# Altium footprint library IPC-7355 QFP_Shrink_Sq_50P_Side_N.PcbLib: 26 footprints (part 3 of 3)
Each footprint in its own frame and in the unit in brackets; x right, y up, seen from the top. Pads: shape width x height; smd on the part's side, far side on the other; paste and mask are expansions set on the pad; w line width, h text height; cw(c..) or ccw(c..) is an arc to the next point about the centre after c.
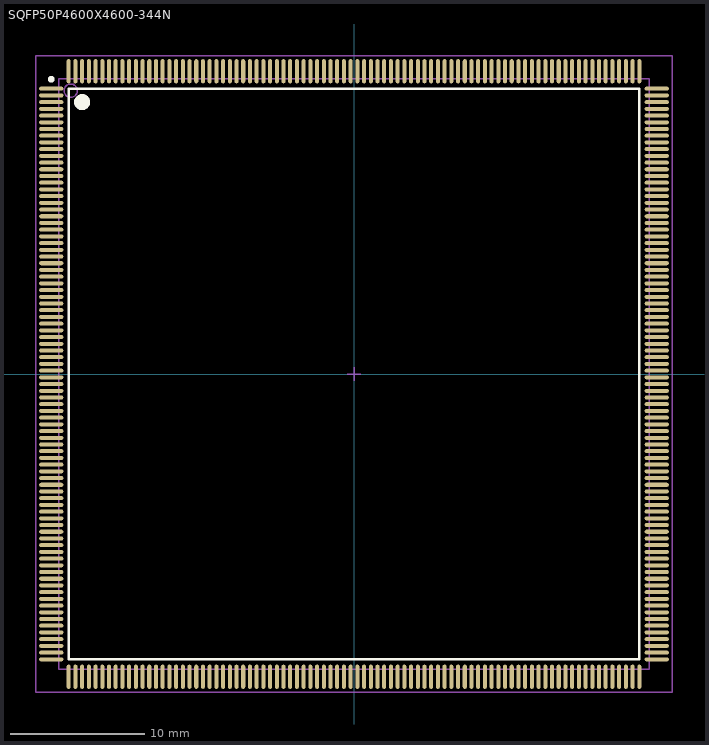
[diagram p2: the footprint, top view; thin cyan lines are the x and y axes]

## SQFP50P4600X4600-344N [mm] "Shrink QFP, 344-Leads, Body 44x44mm, Pitch 0.5mm, IPC Medium Density"
height 4.2
pads (344):
  oval 1.8x0.3 smd: 1(-22.55,21.25) 2(-22.55,20.75) 3(-22.55,20.25) 4(-22.55,19.75) 5(-22.55,19.25) 6(-22.55,18.75) 7(-22.55,18.25) 8(-22.55,17.75) 9(-22.55,17.25) 10(-22.55,16.75) 11(-22.55,16.25) 12(-22.55,15.75) 13(-22.55,15.25) 14(-22.55,14.75) 15(-22.55,14.25) 16(-22.55,13.75) 17(-22.55,13.25) 18(-22.55,12.75) 19(-22.55,12.25) 20(-22.55,11.75) 21(-22.55,11.25) 22(-22.55,10.75) 23(-22.55,10.25) 24(-22.55,9.75) 25(-22.55,9.25) 26(-22.55,8.75) 27(-22.55,8.25) 28(-22.55,7.75) 29(-22.55,7.25) 30(-22.55,6.75) 31(-22.55,6.25) 32(-22.55,5.75) 33(-22.55,5.25) 34(-22.55,4.75) 35(-22.55,4.25) 36(-22.55,3.75) 37(-22.55,3.25) 38(-22.55,2.75) 39(-22.55,2.25) 40(-22.55,1.75) 41(-22.55,1.25) 42(-22.55,0.75) 43(-22.55,0.25) 44(-22.55,-0.25) 45(-22.55,-0.75) 46(-22.55,-1.25) 47(-22.55,-1.75) 48(-22.55,-2.25) 49(-22.55,-2.75) 50(-22.55,-3.25) 51(-22.55,-3.75) 52(-22.55,-4.25) 53(-22.55,-4.75) 54(-22.55,-5.25) 55(-22.55,-5.75) 56(-22.55,-6.25) 57(-22.55,-6.75) 58(-22.55,-7.25) 59(-22.55,-7.75) 60(-22.55,-8.25) 61(-22.55,-8.75) 62(-22.55,-9.25) 63(-22.55,-9.75) 64(-22.55,-10.25) 65(-22.55,-10.75) 66(-22.55,-11.25) 67(-22.55,-11.75) 68(-22.55,-12.25) 69(-22.55,-12.75) 70(-22.55,-13.25) 71(-22.55,-13.75) 72(-22.55,-14.25) 73(-22.55,-14.75) 74(-22.55,-15.25) 75(-22.55,-15.75) 76(-22.55,-16.25) 77(-22.55,-16.75) 78(-22.55,-17.25) 79(-22.55,-17.75) 80(-22.55,-18.25) 81(-22.55,-18.75) 82(-22.55,-19.25) 83(-22.55,-19.75) 84(-22.55,-20.25) 85(-22.55,-20.75) 86(-22.55,-21.25) 173(22.55,-21.25) 174(22.55,-20.75) 175(22.55,-20.25) 176(22.55,-19.75) 177(22.55,-19.25) 178(22.55,-18.75) 179(22.55,-18.25) 180(22.55,-17.75) 181(22.55,-17.25) 182(22.55,-16.75) 183(22.55,-16.25) 184(22.55,-15.75) 185(22.55,-15.25) 186(22.55,-14.75) 187(22.55,-14.25) 188(22.55,-13.75) 189(22.55,-13.25) 190(22.55,-12.75) 191(22.55,-12.25) 192(22.55,-11.75) 193(22.55,-11.25) 194(22.55,-10.75) 195(22.55,-10.25) 196(22.55,-9.75) 197(22.55,-9.25) 198(22.55,-8.75) 199(22.55,-8.25) 200(22.55,-7.75) 201(22.55,-7.25) 202(22.55,-6.75) 203(22.55,-6.25) 204(22.55,-5.75) 205(22.55,-5.25) 206(22.55,-4.75) 207(22.55,-4.25) 208(22.55,-3.75) 209(22.55,-3.25) 210(22.55,-2.75) 211(22.55,-2.25) 212(22.55,-1.75) 213(22.55,-1.25) 214(22.55,-0.75) 215(22.55,-0.25) 216(22.55,0.25) 217(22.55,0.75) 218(22.55,1.25) 219(22.55,1.75) 220(22.55,2.25) 221(22.55,2.75) 222(22.55,3.25) 223(22.55,3.75) 224(22.55,4.25) 225(22.55,4.75) 226(22.55,5.25) 227(22.55,5.75) 228(22.55,6.25) 229(22.55,6.75) 230(22.55,7.25) 231(22.55,7.75) 232(22.55,8.25) 233(22.55,8.75) 234(22.55,9.25) 235(22.55,9.75) 236(22.55,10.25) 237(22.55,10.75) 238(22.55,11.25) 239(22.55,11.75) 240(22.55,12.25) 241(22.55,12.75) 242(22.55,13.25) 243(22.55,13.75) 244(22.55,14.25) 245(22.55,14.75) 246(22.55,15.25) 247(22.55,15.75) 248(22.55,16.25) 249(22.55,16.75) 250(22.55,17.25) 251(22.55,17.75) 252(22.55,18.25) 253(22.55,18.75) 254(22.55,19.25) 255(22.55,19.75) 256(22.55,20.25) 257(22.55,20.75) 258(22.55,21.25)
  oval 0.3x1.8 smd: 87(-21.25,-22.55) 88(-20.75,-22.55) 89(-20.25,-22.55) 90(-19.75,-22.55) 91(-19.25,-22.55) 92(-18.75,-22.55) 93(-18.25,-22.55) 94(-17.75,-22.55) 95(-17.25,-22.55) 96(-16.75,-22.55) 97(-16.25,-22.55) 98(-15.75,-22.55) 99(-15.25,-22.55) 100(-14.75,-22.55) 101(-14.25,-22.55) 102(-13.75,-22.55) 103(-13.25,-22.55) 104(-12.75,-22.55) 105(-12.25,-22.55) 106(-11.75,-22.55) 107(-11.25,-22.55) 108(-10.75,-22.55) 109(-10.25,-22.55) 110(-9.75,-22.55) 111(-9.25,-22.55) 112(-8.75,-22.55) 113(-8.25,-22.55) 114(-7.75,-22.55) 115(-7.25,-22.55) 116(-6.75,-22.55) 117(-6.25,-22.55) 118(-5.75,-22.55) 119(-5.25,-22.55) 120(-4.75,-22.55) 121(-4.25,-22.55) 122(-3.75,-22.55) 123(-3.25,-22.55) 124(-2.75,-22.55) 125(-2.25,-22.55) 126(-1.75,-22.55) 127(-1.25,-22.55) 128(-0.75,-22.55) 129(-0.25,-22.55) 130(0.25,-22.55) 131(0.75,-22.55) 132(1.25,-22.55) 133(1.75,-22.55) 134(2.25,-22.55) 135(2.75,-22.55) 136(3.25,-22.55) 137(3.75,-22.55) 138(4.25,-22.55) 139(4.75,-22.55) 140(5.25,-22.55) 141(5.75,-22.55) 142(6.25,-22.55) 143(6.75,-22.55) 144(7.25,-22.55) 145(7.75,-22.55) 146(8.25,-22.55) 147(8.75,-22.55) 148(9.25,-22.55) 149(9.75,-22.55) 150(10.25,-22.55) 151(10.75,-22.55) 152(11.25,-22.55) 153(11.75,-22.55) 154(12.25,-22.55) 155(12.75,-22.55) 156(13.25,-22.55) 157(13.75,-22.55) 158(14.25,-22.55) 159(14.75,-22.55) 160(15.25,-22.55) 161(15.75,-22.55) 162(16.25,-22.55) 163(16.75,-22.55) 164(17.25,-22.55) 165(17.75,-22.55) 166(18.25,-22.55) 167(18.75,-22.55) 168(19.25,-22.55) 169(19.75,-22.55) 170(20.25,-22.55) 171(20.75,-22.55) 172(21.25,-22.55) 259(21.25,22.55) 260(20.75,22.55) 261(20.25,22.55) 262(19.75,22.55) 263(19.25,22.55) 264(18.75,22.55) 265(18.25,22.55) 266(17.75,22.55) 267(17.25,22.55) 268(16.75,22.55) 269(16.25,22.55) 270(15.75,22.55) 271(15.25,22.55) 272(14.75,22.55) 273(14.25,22.55) 274(13.75,22.55) 275(13.25,22.55) 276(12.75,22.55) 277(12.25,22.55) 278(11.75,22.55) 279(11.25,22.55) 280(10.75,22.55) 281(10.25,22.55) 282(9.75,22.55) 283(9.25,22.55) 284(8.75,22.55) 285(8.25,22.55) 286(7.75,22.55) 287(7.25,22.55) 288(6.75,22.55) 289(6.25,22.55) 290(5.75,22.55) 291(5.25,22.55) 292(4.75,22.55) 293(4.25,22.55) 294(3.75,22.55) 295(3.25,22.55) 296(2.75,22.55) 297(2.25,22.55) 298(1.75,22.55) 299(1.25,22.55) 300(0.75,22.55) 301(0.25,22.55) 302(-0.25,22.55) 303(-0.75,22.55) 304(-1.25,22.55) 305(-1.75,22.55) 306(-2.25,22.55) 307(-2.75,22.55) 308(-3.25,22.55) 309(-3.75,22.55) 310(-4.25,22.55) 311(-4.75,22.55) 312(-5.25,22.55) 313(-5.75,22.55) 314(-6.25,22.55) 315(-6.75,22.55) 316(-7.25,22.55) 317(-7.75,22.55) 318(-8.25,22.55) 319(-8.75,22.55) 320(-9.25,22.55) 321(-9.75,22.55) 322(-10.25,22.55) 323(-10.75,22.55) 324(-11.25,22.55) 325(-11.75,22.55) 326(-12.25,22.55) 327(-12.75,22.55) 328(-13.25,22.55) 329(-13.75,22.55) 330(-14.25,22.55) 331(-14.75,22.55) 332(-15.25,22.55) 333(-15.75,22.55) 334(-16.25,22.55) 335(-16.75,22.55) 336(-17.25,22.55) 337(-17.75,22.55) 338(-18.25,22.55) 339(-18.75,22.55) 340(-19.25,22.55) 341(-19.75,22.55) 342(-20.25,22.55) 343(-20.75,22.55) 344(-21.25,22.55)
Top Overlay:
  circle w0.6: c-20.25,20.25 r0.3
  circle w0.25: c-22.55,21.95 r0.125
  lines w0.2: -21.25,-21.25 21.25,-21.25 21.25,21.25 -21.25,21.25 -21.25,-21.25
Mechanical 13:
  circle w0.1: c-21.1,21.1 r0.5
  lines w0.1: -22,-22 22,-22 22,22 -22,22 -22,-22
Mechanical 15:
  lines w0.1: -0.5,0 0.5,0 ; 0,-0.5 0,0.5 ; -23.7,-23.7 23.7,-23.7 23.7,23.7 -23.7,23.7 -23.7,-23.7
3D body: height 4.2, standoff 0, extent -22,-22 22,22